# Altium schematic symbol library 68602-116HLF.SchLib: 2 symbols
Pins are listed as number, name and electrical type; pins without a type are passive.

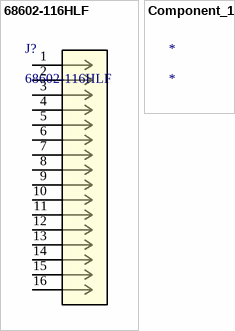
[diagram p0: symbols 68602-116HLF to Component_1]

## 68602-116HLF
designator J?
No Description Available; Mfr_Name: Amphenol ICC; Copyright: Copyright (C) 2023 Ultra Librarian. All rights reserved.; Manufacturer_Part_Number: 68602-116HLF; Digi-Key_Part_Number_1: 609-3364-ND; RefDes: RefDes; Type: DEV
footprint CONN_68602-116HLF_AMP
pins: 1, 2, 3, 4, 5, 6, 7, 8, 9, 10, 11, 12, 13, 14, 15, 16

## Component_1
designator *